# EAGLE library part EMIF06-1005M12 (library EMIF06-1005M12)
EMI Filter Circuits 6lin lw cpcitnc EMI 45pF -35db @ 900MHz Source: Datasheet <https://www.st.com/resource/en/datasheet/emif06-1005m12.pdf>
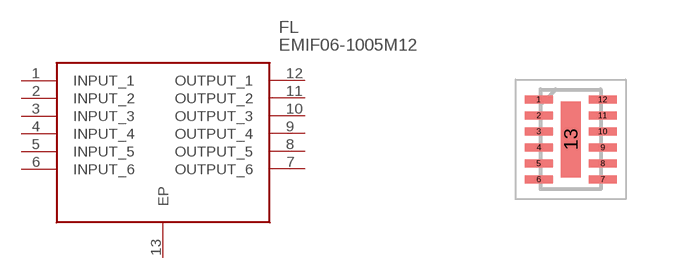
[diagram p0: symbol with the pads of SON40P150X250X65-13N; footprint SON40P150X250X65-13N]

Designator prefix FL

## EMIF06-1005M12 (Description: EMI Filter Circuits 6lin lw cpcitnc EMI 45pF -35db @ 900MHz; Height: 0.65mm; Manufacturer_Name: STMicroelectronics; Manufacturer_Part_Number: EMIF06-1005M12; Mouser_Part_Number: 511-EMIF06-1005M12; Mouser_Price-Stock: https://www.mouser.co.uk/ProductDetail/STMicroelectronics/EMIF06-1005M12?qs=VJaATVMq%252BXo0u09ZqtQg3A%3D%3D)  [SON40P150X250X65-13N]
1  INPUT_1
2  INPUT_2
3  INPUT_3
4  INPUT_4
5  INPUT_5
6  INPUT_6
7  OUTPUT_6
8  OUTPUT_5
9  OUTPUT_4
10  OUTPUT_3
11  OUTPUT_2
12  OUTPUT_1
13  EP

## Footprint SON40P150X250X65-13N (pad centres in mm)
QFN 2.5 x 1.5
smd 0.7 x 0.2: 1 -0.8,1; 2 -0.8,0.6; 3 -0.8,0.2; 4 -0.8,-0.2; 5 -0.8,-0.6; 6 -0.8,-1; 7 0.8,-1; 8 0.8,-0.6; 9 0.8,-0.2; 10 0.8,0.2; 11 0.8,0.6; 12 0.8,1
smd 0.5 x 1.9: 13 0,0